# EAGLE library part AMIGA-32-BIT-LOCAL-SLOT (library Amiga)
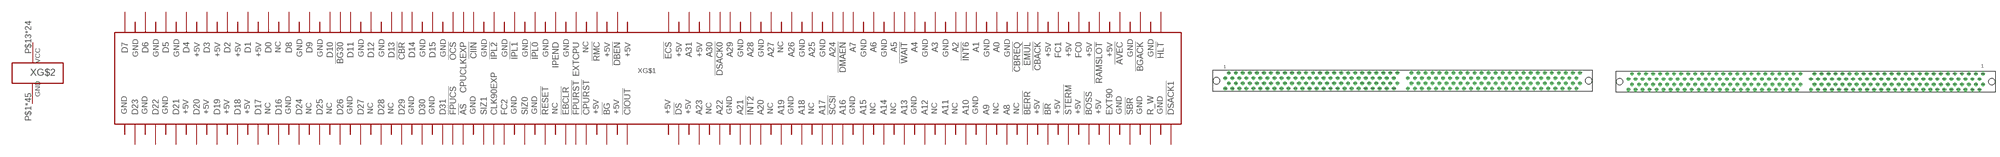
[diagram p41: symbol with the pads of KEL200-F; footprints KEL200-F, KEL200-M]

Designator prefix X; gates G$1=AMIGA-32-BIT-LOCAL-SLOT G$2=1VCC-1GND

## AMIGA-32-BIT-LOCAL-SLOT-MAINBOARD  [KEL200-F]
P$1  G$2:GND1  pwr
P$2  G$1:!HLT
P$3  G$1:!DSACK1
P$4  G$2:GND1  pwr
P$5  G$2:GND1  pwr
P$6  G$1:!BGACK
P$7  G$1:R_W
P$8  G$2:GND1  pwr
P$9  G$2:GND1  pwr
P$10  G$1:!AVEC
P$11  G$1:!SBR
P$12  G$2:GND1  pwr
P$13  G$2:VCC1  pwr
P$14  G$1:!RAMSLOT
P$15  G$1:EXT90
P$16  G$2:VCC1  pwr
P$17  G$2:VCC1  pwr
P$18  G$1:FC0
P$19  G$1:!BOSS
P$20  G$2:VCC1  pwr
P$21  G$2:VCC1  pwr
P$22  G$1:FC1
P$23  G$1:!STERM
P$24  G$2:VCC1  pwr
P$25  G$2:VCC1  pwr
P$26  G$1:!CBACK
P$27  G$1:!BR
P$28  G$2:VCC1  pwr
P$30  G$1:!CBREQ
P$31  G$1:!BERR
P$32  G$1:!EMUL
P$34  G$1:A0
P$35  G$1:A8
P$36  G$2:GND1  pwr
P$37  G$2:GND1  pwr
P$38  G$1:A1
P$39  G$1:A9
P$40  G$2:GND1  pwr
P$42  G$1:A2
P$43  G$1:A10
P$44  G$1:!INT6
P$46  G$1:A3
P$47  G$1:A11
P$48  G$2:GND1  pwr
P$49  G$2:GND1  pwr
P$50  G$1:A4
P$51  G$1:A12
P$52  G$2:GND1  pwr
P$54  G$1:A5
P$55  G$1:A13
P$56  G$1:!WAIT
P$58  G$1:A6
P$59  G$1:A14
P$60  G$2:GND1  pwr
P$61  G$2:GND1  pwr
P$62  G$1:A7
P$63  G$1:A15
P$64  G$2:GND1  pwr
P$65  G$1:!SCSI
P$66  G$1:A24
P$67  G$1:A16
P$68  G$1:!DMAEN
P$70  G$1:A25
P$71  G$1:A17
P$72  G$2:GND1  pwr
P$73  G$2:GND1  pwr
P$74  G$1:A26
P$75  G$1:A18
P$76  G$2:GND1  pwr
P$78  G$1:A27
P$79  G$1:A19
P$81  G$1:!INT2
P$82  G$1:A28
P$83  G$1:A20
P$84  G$2:GND1  pwr
P$85  G$2:GND1  pwr
P$86  G$1:A29
P$87  G$1:A21
P$88  G$2:GND1  pwr
P$90  G$1:A30
P$91  G$1:A22
P$92  G$1:!DSACK0
P$93  G$2:VCC1  pwr
P$94  G$1:A31
P$95  G$1:A23
P$96  G$2:VCC1  pwr
P$97  G$2:VCC1  pwr
P$98  G$1:!ECS
P$99  G$1:!DS
P$100  G$2:VCC1  pwr
P$101  G$2:VCC1  pwr
P$102  G$1:!DBEN
P$103  G$1:!CIOUT
P$104  G$2:VCC1  pwr
P$105  G$2:VCC1  pwr
P$106  G$1:!RMC
P$107  G$1:!BG
P$108  G$2:VCC1  pwr
P$109  G$1:!FPURST
P$110  G$1:EXTCPU
P$111  G$1:!CPURST
P$114  G$1:IPEND
P$115  G$1:!EBCLR
P$116  G$2:GND1  pwr
P$117  G$2:GND1  pwr
P$118  G$1:!IPL0
P$119  G$1:!RESET
P$120  G$2:GND1  pwr
P$121  G$2:GND1  pwr
P$122  G$1:!IPL1
P$123  G$1:SIZ0
P$124  G$2:GND1  pwr
P$125  G$1:CLK90EXP
P$126  G$1:!IPL2
P$127  G$1:FC2
P$128  G$2:GND1  pwr
P$129  G$2:GND1  pwr
P$130  G$1:!CIIN
P$131  G$1:SIZ1
P$132  G$2:GND1  pwr
P$133  G$1:!FPUCS
P$134  G$1:!OCS
P$135  G$1:!AS
P$136  G$1:CPUCLKEXP
P$137  G$2:GND1  pwr
P$138  G$1:D15
P$139  G$1:D31
P$140  G$2:GND1  pwr
P$141  G$2:GND1  pwr
P$142  G$1:D14
P$143  G$1:D30
P$144  G$2:GND1  pwr
P$146  G$1:D13
P$147  G$1:D29
P$148  G$1:!CBR
P$150  G$1:D12
P$151  G$1:D28
P$152  G$2:GND1  pwr
P$153  G$2:GND1  pwr
P$154  G$1:D11
P$155  G$1:D27
P$156  G$2:GND1  pwr
P$158  G$1:D10
P$159  G$1:D26
P$160  G$1:!BG30
P$162  G$1:D9
P$163  G$1:D25
P$164  G$2:GND1  pwr
P$165  G$2:GND1  pwr
P$166  G$1:D8
P$167  G$1:D24
P$168  G$2:GND1  pwr
P$170  G$1:D0
P$171  G$1:D16
P$173  G$2:VCC1  pwr
P$174  G$1:D1
P$175  G$1:D17
P$176  G$2:VCC1  pwr
P$177  G$2:VCC1  pwr
P$178  G$1:D2
P$179  G$1:D18
P$180  G$2:VCC1  pwr
P$181  G$2:VCC1  pwr
P$182  G$1:D3
P$183  G$1:D19
P$184  G$2:VCC1  pwr
P$185  G$2:VCC1  pwr
P$186  G$1:D4
P$187  G$1:D20
P$188  G$2:VCC1  pwr
P$189  G$2:GND1  pwr
P$190  G$1:D5
P$191  G$1:D21
P$192  G$2:GND1  pwr
P$193  G$2:GND1  pwr
P$194  G$1:D6
P$195  G$1:D22
P$196  G$2:GND1  pwr
P$197  G$2:GND1  pwr
P$198  G$1:D7
P$199  G$1:D23
P$200  G$2:GND1  pwr

## AMIGA-32-BIT-LOCAL-SLOT-CPUCARD  [KEL200-M]
Pads as for KEL200-F

## Footprint KEL200-F (pad centres in mm)
drill 0.8 octagon: P$1 -64.135,0.953
drill 0.8: P$2 -64.135,-2.857; P$3 -62.865,2.857; P$4 -62.865,-0.953; P$5 -61.595,0.953; P$6 -61.595,-2.857; P$7 -60.325,2.857; P$8 -60.325,-0.953; P$9 -59.055,0.953; P$10 -59.055,-2.857; P$11 -57.785,2.857; P$12 -57.785,-0.953; P$13 -56.515,0.953; P$14 -56.515,-2.857; P$15 -55.245,2.857; P$16 -55.245,-0.953; P$17 -53.975,0.953; P$18 -53.975,-2.857; P$19 -52.705,2.857; P$20 -52.705,-0.953; P$21 -51.435,0.953; P$22 -51.435,-2.857; P$23 -50.165,2.857; P$24 -50.165,-0.953; P$25 -48.895,0.953; P$26 -48.895,-2.857; P$27 -47.625,2.857; P$28 -47.625,-0.953; P$29 -46.355,0.953; P$30 -46.355,-2.857; P$31 -45.085,2.857; P$32 -45.085,-0.953; P$33 -43.815,0.953; P$34 -43.815,-2.857; P$35 -42.545,2.857; P$36 -42.545,-0.953; P$37 -41.275,0.953; P$38 -41.275,-2.857; P$39 -40.005,2.857; P$40 -40.005,-0.953; P$41 -38.735,0.953; P$42 -38.735,-2.857; P$43 -37.465,2.857; P$44 -37.465,-0.953; P$45 -36.195,0.953; P$46 -36.195,-2.857; P$47 -34.925,2.857; P$48 -34.925,-0.953; P$49 -33.655,0.953; P$50 -33.655,-2.857; P$51 -32.385,2.857; P$52 -32.385,-0.953; P$53 -31.115,0.953; P$54 -31.115,-2.857; P$55 -29.845,2.857; P$56 -29.845,-0.953; P$57 -28.575,0.953; P$58 -28.575,-2.857; P$59 -27.305,2.857; P$60 -27.305,-0.953; P$61 -26.035,0.953; P$62 -26.035,-2.857; P$63 -24.765,2.857; P$64 -24.765,-0.953; P$65 -23.495,0.953; P$66 -23.495,-2.857; P$67 -22.225,2.857; P$68 -22.225,-0.953; P$69 -20.955,0.953; P$70 -20.955,-2.857; P$71 -19.685,2.857; P$72 -19.685,-0.953; P$73 -18.415,0.953; P$74 -18.415,-2.857; P$75 -17.145,2.857; P$76 -17.145,-0.953; P$77 -15.875,0.953; P$78 -15.875,-2.857; P$79 -14.605,2.857; P$80 -14.605,-0.953; P$81 -13.335,0.953; P$82 -13.335,-2.857; P$83 -12.065,2.857; P$84 -12.065,-0.953; P$85 -10.795,0.953; P$86 -10.795,-2.857; P$87 -9.525,2.857; P$88 -9.525,-0.953; P$89 -8.255,0.953; P$90 -8.255,-2.857; P$91 -6.985,2.857; P$92 -6.985,-0.953; P$93 -5.715,0.953; P$94 -5.715,-2.857; P$95 -4.445,2.857; P$96 -4.445,-0.953; P$97 -3.175,0.953; P$98 -3.175,-2.857; P$99 -1.905,2.857; P$100 -1.905,-0.953; P$101 1.905,0.953; P$102 1.905,-2.857; P$103 3.175,2.857; P$104 3.175,-0.953; P$105 4.445,0.953; P$106 4.445,-2.857; P$107 5.715,2.857; P$108 5.715,-0.953; P$109 6.985,0.953; P$110 6.985,-2.857; P$111 8.255,2.857; P$112 8.255,-0.953; P$113 9.525,0.953; P$114 9.525,-2.857; P$115 10.795,2.857; P$116 10.795,-0.953; P$117 12.065,0.953; P$118 12.065,-2.857; P$119 13.335,2.857; P$120 13.335,-0.953; P$121 14.605,0.953; P$122 14.605,-2.857; P$123 15.875,2.857; P$124 15.875,-0.953; P$125 17.145,0.953; P$126 17.145,-2.857; P$127 18.415,2.857; P$128 18.415,-0.953; P$129 19.685,0.953; P$130 19.685,-2.857; P$131 20.955,2.857; P$132 20.955,-0.953; P$133 22.225,0.953; P$134 22.225,-2.857; P$135 23.495,2.857; P$136 23.495,-0.953; P$137 24.765,0.953; P$138 24.765,-2.857; P$139 26.035,2.857; P$140 26.035,-0.953; P$141 27.305,0.953; P$142 27.305,-2.857; P$143 28.575,2.857; P$144 28.575,-0.953; P$145 29.845,0.953; P$146 29.845,-2.857; P$147 31.115,2.857; P$148 31.115,-0.953; P$149 32.385,0.953; P$150 32.385,-2.857; P$151 33.655,2.857; P$152 33.655,-0.953; P$153 34.925,0.953; P$154 34.925,-2.857; P$155 36.195,2.857; P$156 36.195,-0.953; P$157 37.465,0.953; P$158 37.465,-2.857; P$159 38.735,2.857; P$160 38.735,-0.953; P$161 40.005,0.953; P$162 40.005,-2.857; P$163 41.275,2.857; P$164 41.275,-0.953; P$165 42.545,0.953; P$166 42.545,-2.857; P$167 43.815,2.857; P$168 43.815,-0.953; P$169 45.085,0.953; P$170 45.085,-2.857; P$171 46.355,2.857; P$172 46.355,-0.953; P$173 47.625,0.953; P$174 47.625,-2.857; P$175 48.895,2.857; P$176 48.895,-0.953; P$177 50.165,0.953; P$178 50.165,-2.857; P$179 51.435,2.857; P$180 51.435,-0.953; P$181 52.705,0.953; P$182 52.705,-2.857; P$183 53.975,2.857; P$184 53.975,-0.953; P$185 55.245,0.953; P$186 55.245,-2.857; P$187 56.515,2.857; P$188 56.515,-0.953; P$189 57.785,0.953; P$190 57.785,-2.857; P$191 59.055,2.857; P$192 59.055,-0.953; P$193 60.325,0.953; P$194 60.325,-2.857; P$195 61.595,2.857; P$196 61.595,-0.953; P$197 62.865,0.953; P$198 62.865,-2.857; P$199 64.135,2.857; P$200 64.135,-0.953
hole 2.3 at -67.31,0
hole 2.3 at 67.31,0

## Footprint KEL200-M (pad centres in mm)
drill 0.8 octagon: P$1 64.135,2.857
drill 0.8: P$2 64.135,-0.953; P$3 62.865,0.953; P$4 62.865,-2.857; P$5 61.595,2.857; P$6 61.595,-0.953; P$7 60.325,0.953; P$8 60.325,-2.857; P$9 59.055,2.857; P$10 59.055,-0.953; P$11 57.785,0.953; P$12 57.785,-2.857; P$13 56.515,2.857; P$14 56.515,-0.953; P$15 55.245,0.953; P$16 55.245,-2.857; P$17 53.975,2.857; P$18 53.975,-0.953; P$19 52.705,0.953; P$20 52.705,-2.857; P$21 51.435,2.857; P$22 51.435,-0.953; P$23 50.165,0.953; P$24 50.165,-2.857; P$25 48.895,2.857; P$26 48.895,-0.953; P$27 47.625,0.953; P$28 47.625,-2.857; P$29 46.355,2.857; P$30 46.355,-0.953; P$31 45.085,0.953; P$32 45.085,-2.857; P$33 43.815,2.857; P$34 43.815,-0.953; P$35 42.545,0.953; P$36 42.545,-2.857; P$37 41.275,2.857; P$38 41.275,-0.953; P$39 40.005,0.953; P$40 40.005,-2.857; P$41 38.735,2.857; P$42 38.735,-0.953; P$43 37.465,0.953; P$44 37.465,-2.857; P$45 36.195,2.857; P$46 36.195,-0.953; P$47 34.925,0.953; P$48 34.925,-2.857; P$49 33.655,2.857; P$50 33.655,-0.953; P$51 32.385,0.953; P$52 32.385,-2.857; P$53 31.115,2.857; P$54 31.115,-0.953; P$55 29.845,0.953; P$56 29.845,-2.857; P$57 28.575,2.857; P$58 28.575,-0.953; P$59 27.305,0.953; P$60 27.305,-2.857; P$61 26.035,2.857; P$62 26.035,-0.953; P$63 24.765,0.953; P$64 24.765,-2.857; P$65 23.495,2.857; P$66 23.495,-0.953; P$67 22.225,0.953; P$68 22.225,-2.857; P$69 20.955,2.857; P$70 20.955,-0.953; P$71 19.685,0.953; P$72 19.685,-2.857; P$73 18.415,2.857; P$74 18.415,-0.953; P$75 17.145,0.953; P$76 17.145,-2.857; P$77 15.875,2.857; P$78 15.875,-0.953; P$79 14.605,0.953; P$80 14.605,-2.857; P$81 13.335,2.857; P$82 13.335,-0.953; P$83 12.065,0.953; P$84 12.065,-2.857; P$85 10.795,2.857; P$86 10.795,-0.953; P$87 9.525,0.953; P$88 9.525,-2.857; P$89 8.255,2.857; P$90 8.255,-0.953; P$91 6.985,0.953; P$92 6.985,-2.857; P$93 5.715,2.857; P$94 5.715,-0.953; P$95 4.445,0.953; P$96 4.445,-2.857; P$97 3.175,2.857; P$98 3.175,-0.953; P$99 1.905,0.953; P$100 1.905,-2.857; P$101 -1.905,2.857; P$102 -1.905,-0.953; P$103 -3.175,0.953; P$104 -3.175,-2.857; P$105 -4.445,2.857; P$106 -4.445,-0.953; P$107 -5.715,0.953; P$108 -5.715,-2.857; P$109 -6.985,2.857; P$110 -6.985,-0.953; P$111 -8.255,0.953; P$112 -8.255,-2.857; P$113 -9.525,2.857; P$114 -9.525,-0.953; P$115 -10.795,0.953; P$116 -10.795,-2.857; P$117 -12.065,2.857; P$118 -12.065,-0.953; P$119 -13.335,0.953; P$120 -13.335,-2.857; P$121 -14.605,2.857; P$122 -14.605,-0.953; P$123 -15.875,0.953; P$124 -15.875,-2.857; P$125 -17.145,2.857; P$126 -17.145,-0.953; P$127 -18.415,0.953; P$128 -18.415,-2.857; P$129 -19.685,2.857; P$130 -19.685,-0.953; P$131 -20.955,0.953; P$132 -20.955,-2.857; P$133 -22.225,2.857; P$134 -22.225,-0.953; P$135 -23.495,0.953; P$136 -23.495,-2.857; P$137 -24.765,2.857; P$138 -24.765,-0.953; P$139 -26.035,0.953; P$140 -26.035,-2.857; P$141 -27.305,2.857; P$142 -27.305,-0.953; P$143 -28.575,0.953; P$144 -28.575,-2.857; P$145 -29.845,2.857; P$146 -29.845,-0.953; P$147 -31.115,0.953; P$148 -31.115,-2.857; P$149 -32.385,2.857; P$150 -32.385,-0.953; P$151 -33.655,0.953; P$152 -33.655,-2.857; P$153 -34.925,2.857; P$154 -34.925,-0.953; P$155 -36.195,0.953; P$156 -36.195,-2.857; P$157 -37.465,2.857; P$158 -37.465,-0.953; P$159 -38.735,0.953; P$160 -38.735,-2.857; P$161 -40.005,2.857; P$162 -40.005,-0.953; P$163 -41.275,0.953; P$164 -41.275,-2.857; P$165 -42.545,2.857; P$166 -42.545,-0.953; P$167 -43.815,0.953; P$168 -43.815,-2.857; P$169 -45.085,2.857; P$170 -45.085,-0.953; P$171 -46.355,0.953; P$172 -46.355,-2.857; P$173 -47.625,2.857; P$174 -47.625,-0.953; P$175 -48.895,0.953; P$176 -48.895,-2.857; P$177 -50.165,2.857; P$178 -50.165,-0.953; P$179 -51.435,0.953; P$180 -51.435,-2.857; P$181 -52.705,2.857; P$182 -52.705,-0.953; P$183 -53.975,0.953; P$184 -53.975,-2.857; P$185 -55.245,2.857; P$186 -55.245,-0.953; P$187 -56.515,0.953; P$188 -56.515,-2.857; P$189 -57.785,2.857; P$190 -57.785,-0.953; P$191 -59.055,0.953; P$192 -59.055,-2.857; P$193 -60.325,2.857; P$194 -60.325,-0.953; P$195 -61.595,0.953; P$196 -61.595,-2.857; P$197 -62.865,2.857; P$198 -62.865,-0.953; P$199 -64.135,0.953; P$200 -64.135,-2.857
hole 2.3 at 67.31,0
hole 2.3 at -67.31,0